# EAGLE library part 615108150221R (library 632723100011_Eagle_WR-USB_rev19b)
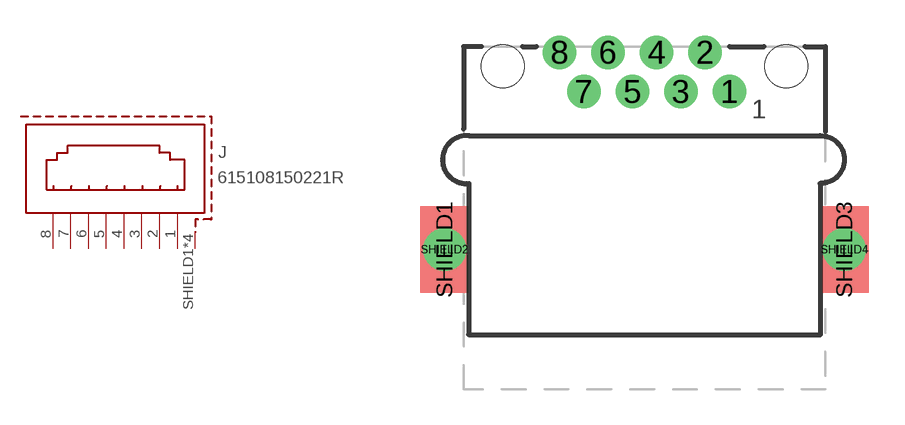
[diagram p181: symbol with the pads of 615108150221R; footprint 615108150221R]

Designator prefix J

## 615108150221R  [615108150221R]
1  1  pas
2  2  pas
3  3  pas
4  4  pas
5  5  pas
6  6  pas
7  7  pas
8  8  pas
SHIELD1  SHIELD  pas
SHIELD2  SHIELD  pas
SHIELD3  SHIELD  pas
SHIELD4  SHIELD  pas

## Footprint 615108150221R (pad centres in mm)
drill 0.9: 1 3.57,6.63; 2 2.55,8.28; 3 1.53,6.63; 4 0.51,8.28; 5 -0.51,6.63; 6 -1.53,8.28; 7 -2.55,6.63; 8 -3.57,8.28
smd 2.05 x 3.63: SHIELD1 -8.4,0; SHIELD3 8.4,0
drill 1.2: SHIELD2 -8.4,0; SHIELD4 8.4,0
hole 1.8 at 5.95,7.7
hole 1.8 at -5.95,7.7